# Altium footprint library 2020_july_Push_Button.PcbLib: 1 footprints
Each footprint in its own frame and in the unit in brackets; x right, y up, seen from the top. Pads: shape width x height; smd on the part's side, far side on the other; paste and mask are expansions set on the pad; w line width, h text height; cw(c..) or ccw(c..) is an arc to the next point about the centre after c.
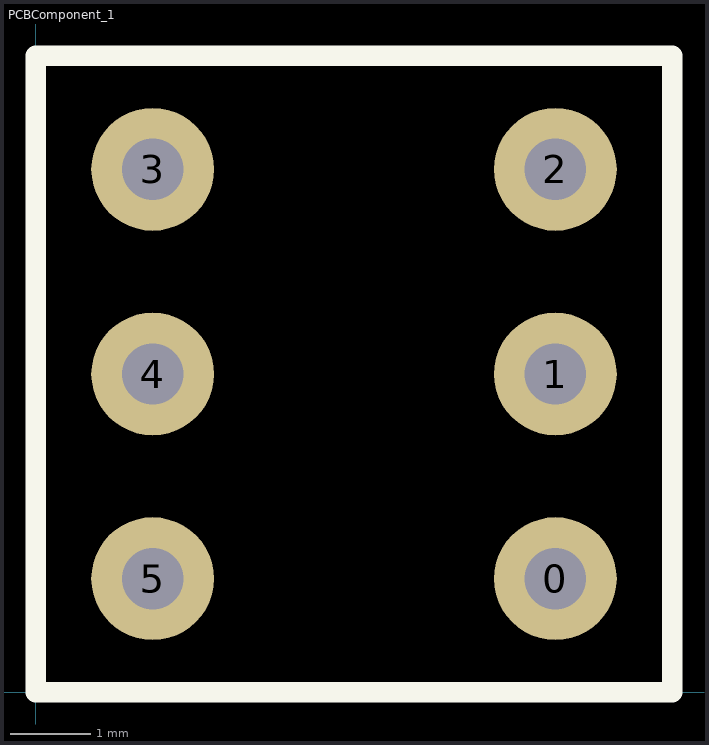
[diagram p0: the footprint, top view; thin cyan lines are the x and y axes]

## PCBComponent_1 [mil]
pads (6):
  round 60 hole 30: 0(253.94,55.51) 1(253.94,155.51) 2(253.94,255.51) 3(57.09,255.51) 4(57.09,155.51) 5(57.09,55.51)
Top Overlay:
  lines w10: 0,0 311.02,0 311.02,311.02 0,311.02 0,0